# EAGLE library part HDR-1X7 (library connector)
CONN HEADER 7POS .100 VERT
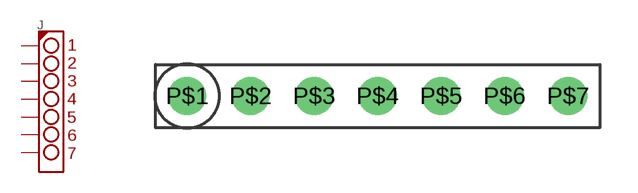
[diagram p14: symbol with the pads of HDR-1X7; footprint HDR-1X7]

Designator prefix J

## HDR-1X7 (DIGIKEY: WM50014-07-ND; MFR: Molex; MPN: 0022284070)  [HDR-1X7]
P$1  P$1
P$2  P$2
P$3  P$3
P$4  P$4
P$5  P$5
P$6  P$6
P$7  P$7

## Footprint HDR-1X7 (pad centres in mm)
drill 1.016: P$1 -7.62,0; P$2 -5.08,0; P$3 -2.54,0; P$4 0,0; P$5 2.54,0; P$6 5.08,0; P$7 7.62,0